# Altium footprint library WE-TPC.PcbLib: 16 footprints
Each footprint in its own frame and in the unit in brackets; x right, y up, seen from the top. Pads: shape width x height; smd on the part's side, far side on the other; paste and mask are expansions set on the pad; w line width, h text height; cw(c..) or ccw(c..) is an arc to the next point about the centre after c.
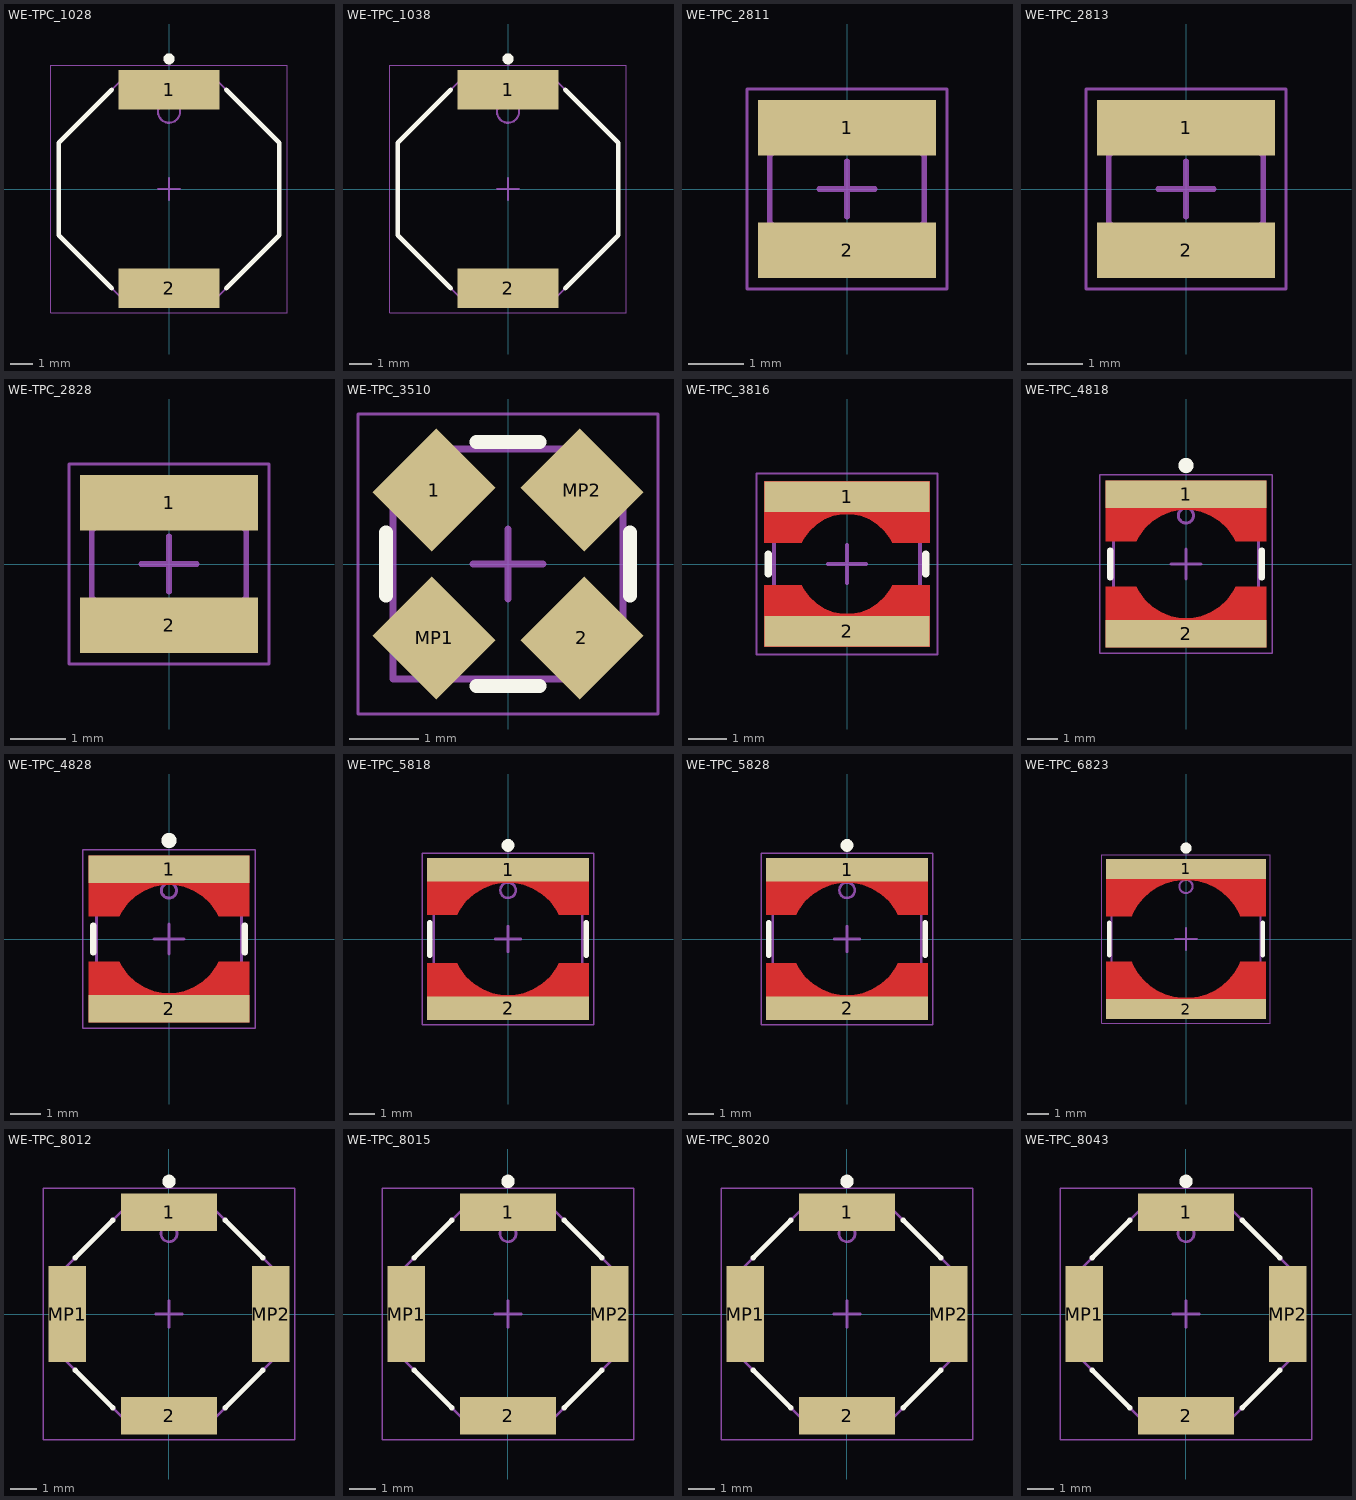
[diagram p0: the footprints below, top view; thin cyan lines are the x and y axes]

## WE-TPC_1028 [mm] "Power Inductor, SMD, 2-Leads, body 10x10mm"
height 2.78
pads (2):
  rect 4.6x1.8 smd: 1(0,4.5) 2(0,-4.5)
Top Overlay:
  circle w0.25: c0,5.9 r0.125
  lines w0.2: -2.6,-4.5 -5,-2.1 -5,2.1 -2.6,4.5 ; 2.6,-4.5 5,-2.1 5,2.1 2.6,4.5
Top Assembly:
  circle w0.1: c0,3.5 r0.5
  lines w0.1: 2.1,-5 5,-2.1 5,2.1 2.1,5 ; 2.1,-5 -2.1,-5 -5,-2.1 -5,2.1 -2.1,5 2.1,5
Top Designator:
  text ".Designator" at -3.647,-0.357 h1
Top 3D Body:
  circle w0.1: c0,3.5 r0.5
  lines w0.1: 2.1,-5 5,-2.1 5,2.1 2.1,5 ; 2.1,-5 -2.1,-5 -5,-2.1 -5,2.1 -2.1,5 2.1,5
Top Courtyard:
  lines w0.05: -5.35,-5.6 -5.35,5.6 5.35,5.6 5.35,-5.6 -5.35,-5.6
Top Component Center:
  lines w0.1: -0.5,0 0.5,0 ; 0,-0.5 0,0.5
3D body "STEP-WE-TPC-1028-rev1.stp": height 2.78, standoff 0, extent -5,-5 5,5

## WE-TPC_1038 [mm] "Power Inductor, SMD, 2-Leads, body 10x10mm"
height 3.8
pads (2):
  rect 4.6x1.8 smd: 1(0,4.5) 2(0,-4.5)
Top Overlay:
  circle w0.25: c0,5.9 r0.125
  lines w0.2: -2.6,-4.5 -5,-2.1 -5,2.1 -2.6,4.5 ; 2.6,-4.5 5,-2.1 5,2.1 2.6,4.5
Top Assembly:
  circle w0.1: c0,3.5 r0.5
  lines w0.1: 2.1,-5 5,-2.1 5,2.1 2.1,5 ; 2.1,-5 -2.1,-5 -5,-2.1 -5,2.1 -2.1,5 2.1,5
Top Designator:
  text ".Designator" at -3.647,-0.357 h1
Top 3D Body:
  circle w0.1: c0,3.5 r0.5
  lines w0.1: 2.1,-5 5,-2.1 5,2.1 2.1,5 ; 2.1,-5 -2.1,-5 -5,-2.1 -5,2.1 -2.1,5 2.1,5
Top Courtyard:
  lines w0.05: -5.35,-5.6 -5.35,5.6 5.35,5.6 5.35,-5.6 -5.35,-5.6
Top Component Center:
  lines w0.1: -0.5,0 0.5,0 ; 0,-0.5 0,0.5
3D body "STEP-WE-TPC-1038-rev1.stp": height 3.8, standoff 0, extent -5,-5 5,5

## WE-TPC_2811 [mm] "Power Inductor, SMD, 2-Leads, body 2.78x2.78mm"
height 1.1
pads (2):
  rect 3.2x1 smd: 1(0,1.1) 2(0,-1.1)
Top Assembly:
  lines w0.1: -1.39,-0.6 -0.6,-1.39 0.6,-1.39 1.39,-0.6 1.39,0.6 0.6,1.39 -0.6,1.39 -1.39,0.6 -1.39,-0.6
Top Designator:
  text ".Designator" at -3.647,-0.357 h1
Top 3D Body:
  lines w0.1: -1.39,-0.6 -0.6,-1.39 0.6,-1.39 1.39,-0.6 1.39,0.6 0.6,1.39 -0.6,1.39 -1.39,0.6 -1.39,-0.6
Top Courtyard:
  lines w0.05: -1.8,-1.8 1.8,-1.8 1.8,1.8 -1.8,1.8 -1.8,-1.8
Top Component Center:
  lines w0.1: -0.5,0 0.5,0 ; 0,-0.5 0,0.5
3D body "STEP-WE-TPC-2811-rev1.stp": height 1.16, standoff 0, extent -1.39,-1.39 1.39,1.39

## WE-TPC_2813 [mm] "Power Inductor, SMD, 2-Leads, body 2.78x2.78mm"
height 1.35
pads (2):
  rect 3.2x1 smd: 1(0,1.1) 2(0,-1.1)
Top Assembly:
  lines w0.1: -1.39,-0.6 -1.39,0.6 -0.6,1.39 0.6,1.39 1.39,0.6 1.39,-0.6 0.6,-1.39 -0.6,-1.39 -1.39,-0.6
Top Designator:
  text ".Designator" at -3.647,-0.357 h1
Top 3D Body:
  lines w0.1: -1.39,-0.6 -1.39,0.6 -0.6,1.39 0.6,1.39 1.39,0.6 1.39,-0.6 0.6,-1.39 -0.6,-1.39 -1.39,-0.6
Top Courtyard:
  lines w0.05: -1.8,-1.8 -1.8,1.8 1.8,1.8 1.8,-1.8 -1.8,-1.8
Top Component Center:
  lines w0.1: -0.5,0 0.5,0 ; 0,-0.5 0,0.5
3D body "STEP-WE-TPC-2813-rev1.stp": height 1.2, standoff 0, extent -1.39,-1.39 1.39,1.39

## WE-TPC_2828 [mm] "Power Inductor, SMD, 2-Leads, body 2.8x2.8mm"
height 2.8
pads (2):
  rect 3.2x1 smd: 1(0,1.1) 2(0,-1.1)
Top Assembly:
  lines w0.1: -1.39,-0.6 -0.6,-1.39 0.6,-1.39 1.39,-0.6 1.39,0.6 0.6,1.39 -0.6,1.39 -1.39,0.6 -1.39,-0.6
Top Designator:
  text ".Designator" at -3.647,-0.357 h1
Top 3D Body:
  lines w0.1: -1.39,-0.6 -0.6,-1.39 0.6,-1.39 1.39,-0.6 1.39,0.6 0.6,1.39 -0.6,1.39 -1.39,0.6 -1.39,-0.6
Top Courtyard:
  lines w0.05: -1.8,-1.8 1.8,-1.8 1.8,1.8 -1.8,1.8 -1.8,-1.8
Top Component Center:
  lines w0.1: -0.5,0 0.5,0 ; 0,-0.5 0,0.5
3D body "744025xxx.stp": height 2.82, standoff 0.02, extent -1.4,-1.4 1.4,1.4

## WE-TPC_3510 [mm] "Power Inductor, SMD, 4-Leads, body 3.3x3.5mm"
height 0.95
pads (4):
  rect 1.3x1.2 smd rot 45: 1(-1.061,1.061) 2(1.061,-1.061)
  rect 1.2x1.3 smd rot 45: MP1(-1.061,-1.061) MP2(1.061,1.061)
Top Overlay:
  lines w0.2: -1.75,-0.45 -1.75,0.45 ; -0.45,-1.75 0.45,-1.75 ; -0.45,1.75 0.45,1.75 ; 1.75,-0.45 1.75,0.45
Top Assembly:
  lines w0.1: 0.85,-1.65 -1.65,-1.65 -1.65,0.85 -0.85,1.65 0.85,1.65 1.65,0.85 1.65,-0.85 0.85,-1.65 ; 0.85,-1.65 0.85,-1.65
Top Designator:
  text ".Designator" at -3.647,-0.357 h1
Top 3D Body:
  lines w0.1: 0.85,-1.65 -1.65,-1.65 -1.65,0.85 -0.85,1.65 0.85,1.65 1.65,0.85 1.65,-0.85 0.85,-1.65 ; 0.85,-1.65 0.85,-1.65
Top Courtyard:
  lines w0.05: -2.15,-2.15 2.15,-2.15 2.15,2.15 -2.15,2.15 -2.15,-2.15
Top Component Center:
  lines w0.1: -0.5,0 0.5,0 ; 0,-0.5 0,0.5
3D body "744030xxx.stp": height 0.95, standoff 0, extent -1.65,-1.65 1.65,1.65

## WE-TPC_3816 [mm] "Power Inductor, SMD, 2-Leads, body 3.8x3.8mm"
height 1.65
pads (2):
  rect 4.3x0.8 smd paste-403.566 mask-403.566: 1(0,1.75) 2(0,-1.75)
Top Layer:
  region: 2.15,-0.55 2.15,-2.15 -2.15,-2.15 -2.15,-0.55 -1.178,-0.55 -1.121,-0.658 -0.977,-0.857 -0.799,-1.026 -0.592,-1.157 -0.364,-1.248 -0.123,-1.294 0.122,-1.294 0.363,-1.248 0.592,-1.158 0.798,-1.026 0.977,-0.858 1.121,-0.659 1.178,-0.55
  region: -2.15,0.55 -2.15,2.15 2.15,2.15 2.15,0.55 1.178,0.55 1.121,0.658 0.977,0.857 0.799,1.026 0.592,1.157 0.364,1.248 0.123,1.294 -0.122,1.294 -0.363,1.248 -0.592,1.158 -0.798,1.026 -0.977,0.858 -1.121,0.659 -1.178,0.55
Top Overlay:
  lines w0.2: -2.05,-0.25 -2.05,0.25 ; 2.05,-0.25 2.05,0.25
Top Assembly:
  lines w0.1: -1.9,-1.9 1.9,-1.9 1.9,1.9 -1.9,1.9 -1.9,-1.9
Top Designator:
  text ".Designator" at -3.647,-0.357 h1
Top 3D Body:
  lines w0.1: -1.9,-1.9 1.9,-1.9 1.9,1.9 -1.9,1.9 -1.9,-1.9
Top Courtyard:
  lines w0.05: -2.35,-2.35 2.35,-2.35 2.35,2.35 -2.35,2.35 -2.35,-2.35
Top Component Center:
  lines w0.1: -0.5,0 0.5,0 ; 0,-0.5 0,0.5
3D body "744031xxx.stp": height 1.65, standoff 0, extent -1.9,-1.9 1.9,1.9

## WE-TPC_4818 [mm] "Power Inductor, SMD, 2-Leads, body 4.8x4.8mm"
height 1.8
pads (2):
  rect 5.3x0.9 smd paste-403.566 mask-403.566: 1(0,2.3) 2(0,-2.3)
Top Layer:
  region: -2.65,0.75 -1.636,0.75 -1.558,0.902 -1.359,1.18 -1.112,1.416 -0.824,1.6 -0.506,1.727 -0.171,1.792 0.171,1.792 0.507,1.727 0.824,1.6 1.112,1.416 1.359,1.18 1.558,0.902 1.636,0.75 2.65,0.75 2.65,2.75 -2.65,2.75
  region: 2.65,-0.75 1.636,-0.75 1.558,-0.902 1.359,-1.18 1.112,-1.416 0.824,-1.6 0.506,-1.727 0.171,-1.792 -0.171,-1.792 -0.507,-1.727 -0.824,-1.6 -1.112,-1.416 -1.359,-1.18 -1.558,-0.902 -1.636,-0.75 -2.65,-0.75 -2.65,-2.75 2.65,-2.75
Top Overlay:
  circle w0.25: c0,3.25 r0.125
  lines w0.2: -2.5,-0.45 -2.5,0.45 ; 2.5,-0.45 2.5,0.45
Top Assembly:
  circle w0.1: c0,1.6 r0.25
  lines w0.1: -2.4,-2.4 2.4,-2.4 2.4,2.4 -2.4,2.4 -2.4,-2.4
Top Designator:
  text ".Designator" at -3.647,-0.357 h1
Top 3D Body:
  circle w0.1: c0,1.6 r0.25
  lines w0.1: -2.4,-2.4 2.4,-2.4 2.4,2.4 -2.4,2.4 -2.4,-2.4
Top Courtyard:
  lines w0.05: -2.85,-2.95 2.85,-2.95 2.85,2.95 -2.85,2.95 -2.85,-2.95
Top Component Center:
  lines w0.1: -0.5,0 0.5,0 ; 0,-0.5 0,0.5
3D body "744042xxx.stp": height 1.8, standoff 0, extent -2.4,-2.4 2.4,2.4

## WE-TPC_4828 [mm] "Power Inductor, SMD, 2-Leads, body 4.8x4.8mm"
height 2.8
pads (2):
  rect 5.3x0.9 smd paste-403.566 mask-403.566: 1(0,2.3) 2(0,-2.3)
Top Layer:
  region: -2.65,0.75 -1.636,0.75 -1.558,0.902 -1.359,1.18 -1.112,1.416 -0.824,1.6 -0.506,1.727 -0.171,1.792 0.171,1.792 0.507,1.727 0.824,1.6 1.112,1.416 1.359,1.18 1.558,0.902 1.636,0.75 2.65,0.75 2.65,2.75 -2.65,2.75
  region: 2.65,-0.75 1.636,-0.75 1.558,-0.902 1.359,-1.18 1.112,-1.416 0.824,-1.6 0.506,-1.727 0.171,-1.792 -0.171,-1.792 -0.507,-1.727 -0.824,-1.6 -1.112,-1.416 -1.359,-1.18 -1.558,-0.902 -1.636,-0.75 -2.65,-0.75 -2.65,-2.75 2.65,-2.75
Top Overlay:
  circle w0.25: c0,3.25 r0.125
  lines w0.2: -2.5,-0.45 -2.5,0.45 ; 2.5,-0.45 2.5,0.45
Top Assembly:
  circle w0.1: c0,1.6 r0.25
  lines w0.1: -2.4,-2.4 2.4,-2.4 2.4,2.4 -2.4,2.4 -2.4,-2.4
Top Designator:
  text ".Designator" at -3.647,-0.357 h1
Top 3D Body:
  circle w0.1: c0,1.6 r0.25
  lines w0.1: -2.4,-2.4 2.4,-2.4 2.4,2.4 -2.4,2.4 -2.4,-2.4
Top Courtyard:
  lines w0.05: -2.85,-2.95 2.85,-2.95 2.85,2.95 -2.85,2.95 -2.85,-2.95
Top Component Center:
  lines w0.1: -0.5,0 0.5,0 ; 0,-0.5 0,0.5
3D body "744043xxx.stp": height 2.8, standoff 0, extent -2.4,-2.4 2.4,2.4

## WE-TPC_5818 [mm] "Power Inductor, SMD, 2-Leads, body 5.8x5.8mm"
height 1.8
pads (2):
  rect 6.3x0.9 smd paste-403.566 mask-403.566: 1(0,2.7) 2(0,-2.7)
Top Layer:
  region: 3.15,-0.95 1.984,-0.95 1.887,-1.131 1.643,-1.463 1.342,-1.744 0.993,-1.963 0.61,-2.114 0.206,-2.19 -0.206,-2.19 -0.61,-2.114 -0.993,-1.963 -1.342,-1.744 -1.643,-1.463 -1.887,-1.132 -1.984,-0.95 -3.15,-0.95 -3.15,-3.15 3.15,-3.15
  region: -3.15,0.95 -1.984,0.95 -1.887,1.131 -1.643,1.463 -1.342,1.744 -0.993,1.963 -0.61,2.114 -0.206,2.19 0.206,2.19 0.61,2.114 0.993,1.963 1.342,1.744 1.643,1.463 1.887,1.132 1.984,0.95 3.15,0.95 3.15,3.15 -3.15,3.15
Top Overlay:
  circle w0.25: c0,3.65 r0.125
  lines w0.2: -3.05,-0.65 -3.05,0.65 ; 3.05,-0.65 3.05,0.65
Top Assembly:
  circle w0.1: c0,1.9 r0.3
  lines w0.1: -2.9,-2.9 2.9,-2.9 2.9,2.9 -2.9,2.9 -2.9,-2.9
Top Designator:
  text ".Designator" at -3.647,-0.357 h1
Top 3D Body:
  circle w0.1: c0,1.9 r0.3
  lines w0.1: -2.9,-2.9 2.9,-2.9 2.9,2.9 -2.9,2.9 -2.9,-2.9
Top Courtyard:
  lines w0.05: -3.35,-3.35 -3.35,3.35 3.35,3.35 3.35,-3.35 -3.35,-3.35
Top Component Center:
  lines w0.1: -0.5,0 0.5,0 ; 0,-0.5 0,0.5
3D body "744052xxx.stp": height 1.8, standoff 0, extent -2.9,-2.9 2.9,2.9

## WE-TPC_5828 [mm] "Power Inductor, SMD, 2-Leads, body 5.8x5.8mm"
height 2.8
pads (2):
  rect 6.3x0.9 smd paste-403.566 mask-403.566: 1(0,2.7) 2(0,-2.7)
Top Layer:
  region: -3.15,0.95 -1.984,0.95 -1.887,1.131 -1.643,1.463 -1.342,1.744 -0.993,1.963 -0.61,2.114 -0.206,2.19 0.206,2.19 0.61,2.114 0.993,1.963 1.342,1.744 1.643,1.463 1.887,1.132 1.984,0.95 3.15,0.95 3.15,3.15 -3.15,3.15
  region: 3.15,-0.95 1.984,-0.95 1.887,-1.131 1.643,-1.463 1.342,-1.744 0.993,-1.963 0.61,-2.114 0.206,-2.19 -0.206,-2.19 -0.61,-2.114 -0.993,-1.963 -1.342,-1.744 -1.643,-1.463 -1.887,-1.132 -1.984,-0.95 -3.15,-0.95 -3.15,-3.15 3.15,-3.15
Top Overlay:
  circle w0.25: c0,3.65 r0.125
  lines w0.2: -3.05,-0.65 -3.05,0.65 ; 3.05,-0.65 3.05,0.65
Top Assembly:
  circle w0.1: c0,1.9 r0.3
  lines w0.1: -2.9,-2.9 -2.9,2.9 2.9,2.9 2.9,-2.9 -2.9,-2.9
Top Designator:
  text ".Designator" at -3.647,-0.357 h1
Top 3D Body:
  circle w0.1: c0,1.9 r0.3
  lines w0.1: -2.9,-2.9 -2.9,2.9 2.9,2.9 2.9,-2.9 -2.9,-2.9
Top Courtyard:
  lines w0.05: -3.35,-3.35 3.35,-3.35 3.35,3.35 -3.35,3.35 -3.35,-3.35
Top Component Center:
  lines w0.1: -0.5,0 0.5,0 ; 0,-0.5 0,0.5
3D body "744053xxx.stp": height 2.8, standoff 0, extent -2.9,-2.9 2.9,2.9

## WE-TPC_6823 [mm] "Power Inductor, SMD, 2-Leads, body 6.8x6.8mm"
height 2.3
pads (2):
  rect 7.3x0.9 smd paste-403.566 mask-403.566: 1(0,3.2) 2(0,-3.2)
Top Layer:
  region: -3.65,1.05 -3.65,3.65 3.65,3.65 3.65,1.05 2.488,1.05 2.404,1.229 2.199,1.567 1.947,1.871 1.653,2.135 1.324,2.353 0.967,2.521 0.588,2.635 0.198,2.693 -0.197,2.693 -0.588,2.635 -0.966,2.521 -1.324,2.353 -1.653,2.135 -1.947,1.871 -2.199,1.567 -2.404,1.229 -2.488,1.05
  region: 3.65,-1.05 3.65,-3.65 -3.65,-3.65 -3.65,-1.05 -2.488,-1.05 -2.404,-1.229 -2.199,-1.567 -1.947,-1.871 -1.653,-2.135 -1.324,-2.353 -0.967,-2.521 -0.588,-2.635 -0.198,-2.693 0.197,-2.693 0.588,-2.635 0.966,-2.521 1.324,-2.353 1.653,-2.135 1.947,-1.871 2.199,-1.567 2.404,-1.229 2.488,-1.05
Top Overlay:
  circle w0.25: c0,4.15 r0.125
  lines w0.2: -3.5,-0.75 -3.5,0.75 ; 3.5,-0.75 3.5,0.75
Top Assembly:
  circle w0.1: c0,2.4 r0.3
  lines w0.1: -3.4,-3.4 3.4,-3.4 3.4,3.4 -3.4,3.4 -3.4,-3.4
Top Designator:
  text ".Designator" at -3.647,-0.357 h1
Top 3D Body:
  circle w0.1: c0,2.4 r0.3
  lines w0.1: -3.4,-3.4 3.4,-3.4 3.4,3.4 -3.4,3.4 -3.4,-3.4
Top Courtyard:
  lines w0.05: -3.85,-3.85 3.85,-3.85 3.85,3.85 -3.85,3.85 -3.85,-3.85
Top Component Center:
  lines w0.1: -0.5,0 0.5,0 ; 0,-0.5 0,0.5
3D body "744062xxx.stp": height 2.3, standoff 0, extent -3.4,-3.4 3.4,3.4

## WE-TPC_8012 [mm] "Power Inductor, SMD, 4-Leads, body 8.0x8.0mm"
height 1.1
pads (4):
  rect 3.6x1.4 smd: 1(0,3.8) 2(0,-3.8)
  rect 1.4x3.6 smd: MP1(-3.8,0) MP2(3.8,0)
Top Overlay:
  circle w0.25: c0,4.95 r0.125
  lines w0.2: -3.5,-2.1 -2.1,-3.5 ; -3.5,2.1 -2.1,3.5 ; 2.1,-3.5 3.5,-2.1 ; 2.1,3.5 3.5,2.1
Top Assembly:
  circle w0.1: c0,3 r0.3
  lines w0.1: -4,-1.6 -1.6,-4 1.6,-4 4,-1.6 4,1.6 1.6,4 -1.6,4 -4,1.6 -4,-1.6
Top Designator:
  text ".Designator" at -3.647,-0.357 h1
Top 3D Body:
  circle w0.1: c0,3 r0.3
  lines w0.1: -4,-1.6 -1.6,-4 1.6,-4 4,-1.6 4,1.6 1.6,4 -1.6,4 -4,1.6 -4,-1.6
Top Courtyard:
  lines w0.05: -4.7,-4.7 4.7,-4.7 4.7,4.7 -4.7,4.7 -4.7,-4.7
Top Component Center:
  lines w0.1: -0.5,0 0.5,0 ; 0,-0.5 0,0.5
3D body "744068xxx.stp": height 1.1, standoff 0, extent -4,-4 4,4

## WE-TPC_8015 [mm] "Power Inductor, SMD, 4-Leads, body 8.0x8.0mm"
height 1.35
pads (4):
  rect 3.6x1.4 smd: 1(0,3.8) 2(0,-3.8)
  rect 1.4x3.6 smd: MP1(-3.8,0) MP2(3.8,0)
Top Overlay:
  circle w0.25: c0,4.95 r0.125
  lines w0.2: -3.5,-2.1 -2.1,-3.5 ; -3.5,2.1 -2.1,3.5 ; 2.1,-3.5 3.5,-2.1 ; 2.1,3.5 3.5,2.1
Top Assembly:
  circle w0.1: c0,3 r0.3
  lines w0.1: -4,-1.6 -1.6,-4 1.6,-4 4,-1.6 4,1.6 1.6,4 -1.6,4 -4,1.6 -4,-1.6
Top Designator:
  text ".Designator" at -3.647,-0.357 h1
Top 3D Body:
  circle w0.1: c0,3 r0.3
  lines w0.1: -4,-1.6 -1.6,-4 1.6,-4 4,-1.6 4,1.6 1.6,4 -1.6,4 -4,1.6 -4,-1.6
Top Courtyard:
  lines w0.05: -4.7,-4.7 4.7,-4.7 4.7,4.7 -4.7,4.7 -4.7,-4.7
Top Component Center:
  lines w0.1: -0.5,0 0.5,0 ; 0,-0.5 0,0.5
3D body "744069xxx.stp": height 1.35, standoff 0, extent -4,-4 4,4

## WE-TPC_8020 [mm] "Power Inductor, SMD, 4-Leads, body 8.0x8.0mm"
height 1.8
pads (4):
  rect 3.6x1.4 smd: 1(0,3.8) 2(0,-3.8)
  rect 1.4x3.6 smd: MP1(-3.8,0) MP2(3.8,0)
Top Overlay:
  circle w0.25: c0,4.95 r0.125
  lines w0.2: -3.5,-2.1 -2.1,-3.5 ; -3.5,2.1 -2.1,3.5 ; 2.1,-3.5 3.5,-2.1 ; 2.1,3.5 3.5,2.1
Top Assembly:
  circle w0.1: c0,3 r0.3
  lines w0.1: -4,-1.6 -4,1.6 -1.6,4 1.6,4 4,1.6 4,-1.6 1.6,-4 -1.6,-4 -4,-1.6
Top Designator:
  text ".Designator" at -3.647,-0.357 h1
Top 3D Body:
  circle w0.1: c0,3 r0.3
  lines w0.1: -4,-1.6 -4,1.6 -1.6,4 1.6,4 4,1.6 4,-1.6 1.6,-4 -1.6,-4 -4,-1.6
Top Courtyard:
  lines w0.05: -4.7,-4.7 -4.7,4.7 4.7,4.7 4.7,-4.7 -4.7,-4.7
Top Component Center:
  lines w0.1: -0.5,0 0.5,0 ; 0,-0.5 0,0.5
3D body "744070xxx.stp": height 1.8, standoff 0, extent -4,-4 4,4

## WE-TPC_8043 [mm] "Power Inductor, SMD, 4-Leads, body 8.0x8.0mm"
height 4.3
pads (4):
  rect 3.6x1.4 smd: 1(0,3.8) 2(0,-3.8)
  rect 1.4x3.6 smd: MP1(-3.8,0) MP2(3.8,0)
Top Overlay:
  circle w0.25: c0,4.95 r0.125
  lines w0.2: -3.5,-2.1 -2.1,-3.5 ; -3.5,2.1 -2.1,3.5 ; 2.1,-3.5 3.5,-2.1 ; 2.1,3.5 3.5,2.1
Top Assembly:
  circle w0.1: c0,3 r0.3
  lines w0.1: -4,-1.6 -1.6,-4 1.6,-4 4,-1.6 4,1.6 1.6,4 -1.6,4 -4,1.6 -4,-1.6
Top Designator:
  text ".Designator" at -3.647,-0.357 h1
Top 3D Body:
  circle w0.1: c0,3 r0.3
  lines w0.1: -4,-1.6 -1.6,-4 1.6,-4 4,-1.6 4,1.6 1.6,4 -1.6,4 -4,1.6 -4,-1.6
Top Courtyard:
  lines w0.05: -4.7,-4.7 4.7,-4.7 4.7,4.7 -4.7,4.7 -4.7,-4.7
Top Component Center:
  lines w0.1: -0.5,0 0.5,0 ; 0,-0.5 0,0.5
3D body "744071xx.stp": height 4.3, standoff 0, extent -4,-4 4,4